# EAGLE library part HEADER_2X4 (library heck)
PIN HEADER
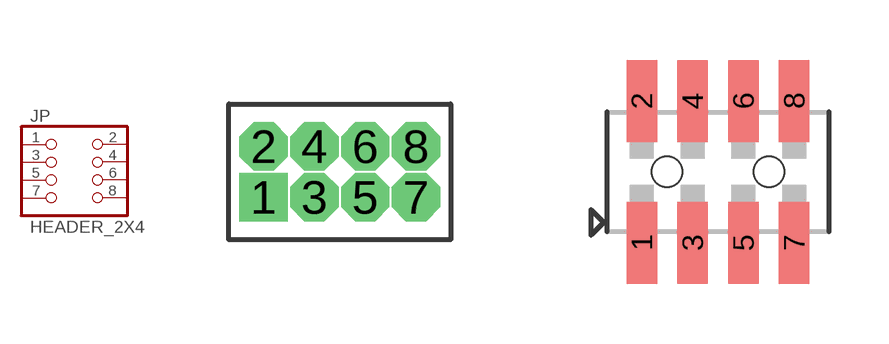
[diagram p2: symbol with the pads of HEADER_50MIL_2X4; footprints HEADER_50MIL_2X4, HEADER_SOCKET_50MIL_2X4_SMD]

Designator prefix JP

## HEADER_2X4  [HEADER_50MIL_2X4]
1  1  pas
2  2  pas
3  3  pas
4  4  pas
5  5  pas
6  6  pas
7  7  pas
8  8  pas

## HEADER_2X4SMD_SOCKET  [HEADER_SOCKET_50MIL_2X4_SMD]
Pads as for HEADER_50MIL_2X4

## HEADER_2X4_SMD_SHROUD_MALE  [HEADER_50MIL_SMD_SHROUDED_MALE]
Pads as for HEADER_50MIL_2X4

## Footprint HEADER_50MIL_2X4 (pad centres in mm)
drill 0.7 pad 1.016 square: 1 -1.905,-0.635
drill 0.7 pad 1.016 octagon: 2 -1.905,0.635; 3 -0.635,-0.635; 4 -0.635,0.635; 5 0.635,-0.635; 6 0.635,0.635; 7 1.905,-0.635; 8 1.905,0.635

## Footprint HEADER_SOCKET_50MIL_2X4_SMD (pad centres in mm)
smd 0.76 x 2.05: 1 -1.905,-1.775; 2 -1.905,1.775; 3 -0.635,-1.775; 4 -0.635,1.775; 5 0.635,-1.775; 6 0.635,1.775; 7 1.905,-1.775; 8 1.905,1.775
hole 0.76 at -1.27,0
hole 0.76 at 1.27,0

## Footprint HEADER_50MIL_SMD_SHROUDED_MALE (pad centres in mm)
smd 0.76 x 2.4: 1 -1.905,-1.95; 2 -1.905,1.95; 3 -0.635,-1.95; 4 -0.635,1.95; 5 0.635,-1.95; 6 0.635,1.95; 7 1.905,-1.95; 8 1.905,1.95